# Altium footprint library XTAL_ASEK-32.768KHZ-LRT.PcbLib: 1 footprints
Each footprint in its own frame and in the unit in brackets; x right, y up, seen from the top. Pads: shape width x height; smd on the part's side, far side on the other; paste and mask are expansions set on the pad; w line width, h text height; cw(c..) or ccw(c..) is an arc to the next point about the centre after c.
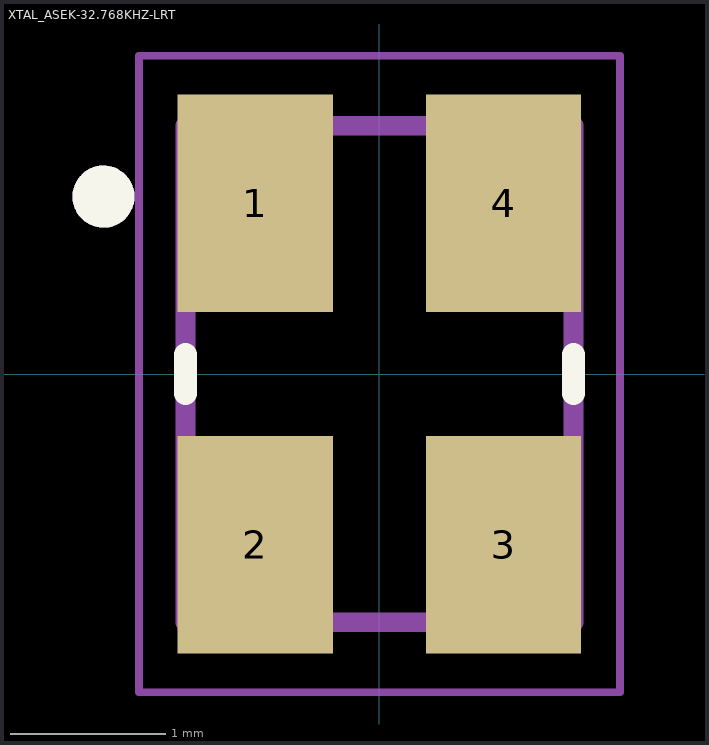
[diagram p0: the footprint, top view; thin cyan lines are the x and y axes]

## XTAL_ASEK-32.768KHZ-LRT [mm]
height 1.2
pads (4):
  rect 1x1.4 smd: 1(-0.8,1.1) 2(-0.8,-1.1) 3(0.8,-1.1) 4(0.8,1.1)
Top Overlay:
  circle w0.2: c-1.778,1.143 r0.1
  lines w0.15: -1.25,-0.125 -1.25,0.125 ; 1.25,-0.125 1.25,0.125
Mechanical 13:
  circle w0.2: c-1.778,1.143 r0.1
  lines w0.127: -1.25,-1.6 1.25,-1.6 1.25,1.6 -1.25,1.6 -1.25,-1.6
Mechanical 15:
  lines w0.05: -1.55,-2.05 1.55,-2.05 1.55,2.05 -1.55,2.05 -1.55,-2.05
3D body "ASEK-32.768KHZ-LRT.STEP": height 1.2, standoff 0, extent -1.25,-1.6 1.25,1.6